# EAGLE library part STLINK_8_PIN_DEBUG (library ORCA_STLINK_MICRO_DEBUG_8_PIN_LIBRARY)
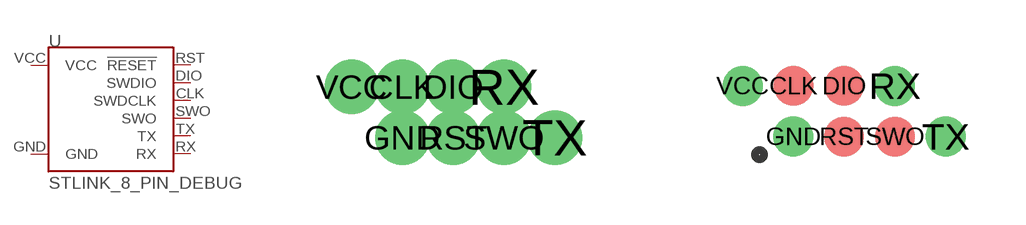
[diagram p0: symbol with the pads of STLINK_8_PIN_POGO; footprints STLINK_8_PIN_POGO, STLINK_8_PIN_PCB]

Designator prefix -

## STLINK_8_PIN_DEBUGPOGO  [STLINK_8_PIN_POGO]
CLK  SWDCLK
DIO  SWDIO
GND  GND  pwr
RST  !RESET
RX  RX
SWO  SWO
TX  TX
VCC  VCC  pwr

## STLINK_8_PIN_DEBUGPCB  [STLINK_8_PIN_PCB]
Pads as for STLINK_8_PIN_POGO

## Footprint STLINK_8_PIN_POGO (pad centres in mm)
drill 0.85 pad 1.12 slot 0.85 rotated 90: CLK -1.27,1.27; DIO 0,1.27; GND -1.27,0; RST 0,0; RX 1.27,1.27; SWO 1.27,0; TX 2.54,0; VCC -2.54,1.27

## Footprint STLINK_8_PIN_PCB (pad centres in mm)
smd 1 x 1: CLK -1.27,1.27; DIO 0,1.27; RST 0,0; SWO 1.27,0
drill 0.4 pad 1: GND -1.27,0; RX 1.27,1.27; TX 2.54,0; VCC -2.54,1.27